# Altium footprint library Crystek.PcbLib: 3 footprints
Each footprint in its own frame and in the unit in brackets; x right, y up, seen from the top. Pads: shape width x height; smd on the part's side, far side on the other; paste and mask are expansions set on the pad; w line width, h text height; cw(c..) or ccw(c..) is an arc to the next point about the centre after c.
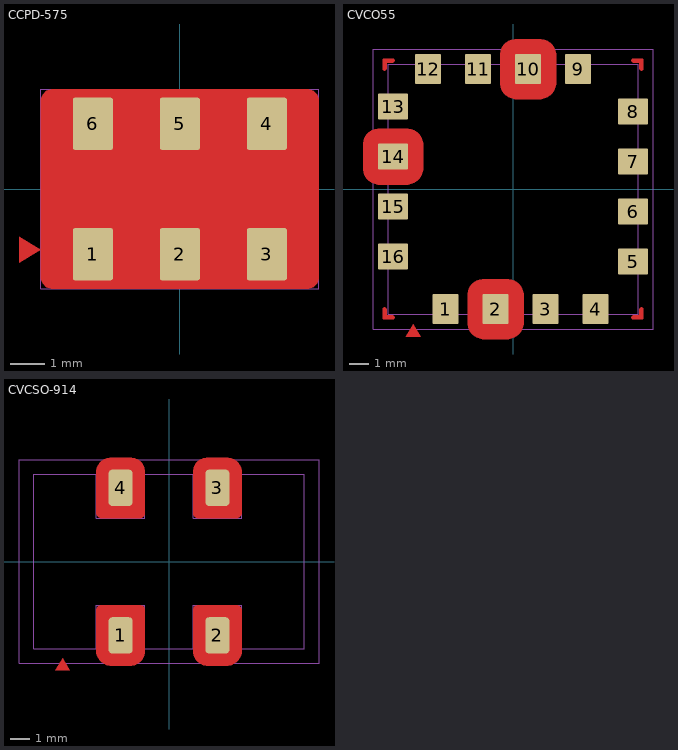
[diagram p0: the footprints below, top view; thin cyan lines are the x and y axes]

## CCPD-575 [mil] "Ultra-Low Phase Noise LVPECL Clock Oscillator"
height 98.43
pads (6):
  rrect10% 46x60 smd paste-2 mask+2: 1(-100,-75) 2(0,-75) 3(100,-75) 4(100,75) 5(0,75) 6(-100,75)
Top Layer:
  pour cut-out: -145,115 -147.98,115 -153.5,112.72 -157.72,108.5 -160,102.98 -160,100 -160,-100 -160,-102.98 -157.72,-108.5 -153.5,-112.72 -147.98,-115 -145,-115 145,-115 147.98,-115 153.5,-112.72 157.72,-108.5 160,-102.98 160,-100 160,100 160,102.98 157.72,108.5 153.5,112.72 147.98,115 145,115
  region: -160,-70 -185,-55 -185,-85
Top Designator:
  text ".Designator" at -127.64,-12.5 h35
Top Courtyard:
  lines w1: -160,-115 160,-115 160,115 -160,115 -160,-115
Top Component Outline:
  lines w1: -147.64,-100 -147.64,100 147.64,100 147.64,-100 -147.64,-100
3D body: height 99, standoff 10, extent -140,-90 140,90
3D body: height 20, standoff 0, extent 78,49 122,101
3D body: height 19.68, standoff 0, extent -147.64,-100 147.64,100
3D body: height 20, standoff 0, extent -22,49 22,101
3D body: height 20, standoff 0, extent -122,49 -78,101
3D body: height 20, standoff 0, extent -122,-101 -78,-49
3D body: height 20, standoff 0, extent -22,-101 22,-49
3D body: height 20, standoff 0, extent 78,-101 122,-49

## CVCO55 [mil]
height 98.43
pads (16):
  rrect10% 52x60 smd paste-2 mask+2: 1(-135,-240) 2(-35,-240) 3(65,-240) 4(165,-240) 9(130,240) 10(30,240) 11(-70,240) 12(-170,240)
  rrect10% 60x52 smd paste-2 mask+2: 5(240,-145) 6(240,-45) 7(240,55) 8(240,155) 13(-240,165) 14(-240,65) 15(-240,-35) 16(-240,-135)
Top Layer:
  region: 240.95,-252.94 240.15,-252.94 238.68,-253.55 237.55,-254.68 236.95,-256.15 236.95,-256.94 236.95,-257.74 237.55,-259.21 238.68,-260.33 240.15,-260.94 240.95,-260.94 256.95,-260.94 257.74,-260.94 259.21,-260.33 260.34,-259.21 260.95,-257.74 260.95,-256.94 260.95,-240.94 260.95,-240.15 260.34,-238.68 259.21,-237.55 257.74,-236.94 256.95,-236.94 256.15,-236.94 254.68,-237.55 253.55,-238.68 252.95,-240.15 252.95,-240.94 252.95,-250.94 252.91,-251.33 252.61,-252.06 252.06,-252.61 251.34,-252.91 250.95,-252.94
  region: -252.94,-240.95 -252.94,-240.15 -253.55,-238.68 -254.68,-237.55 -256.15,-236.95 -256.94,-236.95 -257.74,-236.95 -259.21,-237.55 -260.33,-238.68 -260.94,-240.15 -260.94,-240.95 -260.94,-256.95 -260.94,-257.74 -260.33,-259.21 -259.21,-260.34 -257.74,-260.95 -256.94,-260.95 -240.94,-260.95 -240.15,-260.95 -238.68,-260.34 -237.55,-259.21 -236.94,-257.74 -236.94,-256.95 -236.94,-256.15 -237.55,-254.68 -238.68,-253.55 -240.15,-252.95 -240.94,-252.95 -250.94,-252.95 -251.33,-252.91 -252.06,-252.61 -252.61,-252.06 -252.91,-251.34 -252.94,-250.95
  region: -240.95,252.94 -240.15,252.94 -238.68,253.55 -237.55,254.68 -236.95,256.15 -236.95,256.94 -236.95,257.74 -237.55,259.21 -238.68,260.33 -240.15,260.94 -240.95,260.94 -256.95,260.94 -257.74,260.94 -259.21,260.33 -260.34,259.21 -260.95,257.74 -260.95,256.94 -260.95,240.94 -260.95,240.15 -260.34,238.68 -259.21,237.55 -257.74,236.94 -256.95,236.94 -256.15,236.94 -254.68,237.55 -253.55,238.68 -252.95,240.15 -252.95,240.94 -252.95,250.94 -252.91,251.33 -252.61,252.06 -252.06,252.61 -251.34,252.91 -250.95,252.94
  region: 252.94,240.95 252.94,240.15 253.55,238.68 254.68,237.55 256.15,236.95 256.94,236.95 257.74,236.95 259.21,237.55 260.33,238.68 260.94,240.15 260.94,240.95 260.94,256.95 260.94,257.74 260.33,259.21 259.21,260.34 257.74,260.95 256.94,260.95 240.94,260.95 240.15,260.95 238.68,260.34 237.55,259.21 236.94,257.74 236.94,256.95 236.94,256.15 237.55,254.68 238.68,253.55 240.15,252.95 240.94,252.95 250.94,252.95 251.33,252.91 252.06,252.61 252.61,252.06 252.91,251.34 252.94,250.95
  pour cut-out: 53.4,180 56.61,180 62.91,181.25 68.84,183.71 74.18,187.28 78.72,191.82 82.29,197.16 84.75,203.09 86,209.39 86,212.6 86,267.4 86,270.61 84.75,276.91 82.29,282.84 78.72,288.18 74.18,292.72 68.84,296.29 62.91,298.75 56.61,300 53.4,300 6.6,300 3.39,300 -2.91,298.75 -8.84,296.29 -14.18,292.72 -18.72,288.18 -22.29,282.84 -24.75,276.91 -26,270.61 -26,267.4 -26,212.6 -26,209.39 -24.75,203.09 -22.29,197.16 -18.72,191.82 -14.18,187.28 -8.84,183.71 -2.91,181.25 3.39,180 6.6,180
  pour cut-out: -300,41.6 -300,38.39 -298.75,32.09 -296.29,26.16 -292.72,20.82 -288.18,16.28 -282.84,12.71 -276.91,10.25 -270.61,9 -267.4,9 -212.6,9 -209.39,9 -203.09,10.25 -197.16,12.71 -191.82,16.28 -187.28,20.82 -183.71,26.16 -181.25,32.09 -180,38.39 -180,41.6 -180,88.4 -180,91.61 -181.25,97.91 -183.71,103.84 -187.28,109.18 -191.82,113.72 -197.16,117.29 -203.09,119.75 -209.39,121 -212.6,121 -267.4,121 -270.61,121 -276.91,119.75 -282.84,117.29 -288.18,113.72 -292.72,109.18 -296.29,103.84 -298.75,97.91 -300,91.61 -300,88.4
  pour cut-out: -58.4,-180 -61.61,-180 -67.91,-181.25 -73.84,-183.71 -79.18,-187.28 -83.72,-191.82 -87.29,-197.16 -89.75,-203.09 -91,-209.39 -91,-212.6 -91,-267.4 -91,-270.61 -89.75,-276.91 -87.29,-282.84 -83.72,-288.18 -79.18,-292.72 -73.84,-296.29 -67.91,-298.75 -61.61,-300 -58.4,-300 -11.6,-300 -8.39,-300 -2.09,-298.75 3.84,-296.29 9.18,-292.72 13.72,-288.18 17.29,-282.84 19.75,-276.91 21,-270.61 21,-267.4 21,-212.6 21,-209.39 19.75,-203.09 17.29,-197.16 13.72,-191.82 9.18,-187.28 3.84,-183.71 -2.09,-181.25 -8.39,-180 -11.6,-180
  region: -200,-270 -215,-295 -185,-295
Top Courtyard:
  lines w1: -280,-280 280,-280 280,280 -280,280 -280,-280
Top Component Outline:
  lines w1: -250,-250 250,-250 250,250 -250,250 -250,-250
3D body "User Library-CVCO55BE_Crystek.step": height 150, standoff 0, extent -250,-250 250,250

## CVCSO-914 [mil] "VCSO (SAW) Sine Wave Oscillator 4-SMD, No Lead"
height 208.66
pads (4):
  rrect30% 50x75 smd mask+2: 1(-100,-152.5) 2(100,-152.5) 3(100,152.5) 4(-100,152.5)
Top Layer:
  pour cut-out: 120,-215 122.95,-215 128.75,-213.85 134.21,-211.59 139.12,-208.3 143.3,-204.12 146.59,-199.21 148.85,-193.75 150,-187.95 150,-185 150,-100 150,-98.01 148.48,-94.34 145.66,-91.52 141.99,-90 140,-90 60,-90 58.01,-90 54.34,-91.52 51.52,-94.34 50,-98.01 50,-100 50,-185 50,-187.95 51.15,-193.75 53.41,-199.21 56.7,-204.12 60.88,-208.3 65.79,-211.59 71.25,-213.85 77.05,-215 80,-215
  pour cut-out: -80,-215 -77.05,-215 -71.25,-213.85 -65.79,-211.59 -60.88,-208.3 -56.7,-204.12 -53.41,-199.21 -51.15,-193.75 -50,-187.95 -50,-185 -50,-100 -50,-98.01 -51.52,-94.34 -54.34,-91.52 -58.01,-90 -60,-90 -140,-90 -141.99,-90 -145.66,-91.52 -148.48,-94.34 -150,-98.01 -150,-100 -150,-185 -150,-187.95 -148.85,-193.75 -146.59,-199.21 -143.3,-204.12 -139.12,-208.3 -134.21,-211.59 -128.75,-213.85 -122.95,-215 -120,-215
  pour cut-out: 80,215 77.05,215 71.25,213.85 65.79,211.59 60.88,208.3 56.7,204.12 53.41,199.21 51.15,193.75 50,187.95 50,185 50,100 50,98.01 51.52,94.34 54.34,91.52 58.01,90 60,90 140,90 141.99,90 145.66,91.52 148.48,94.34 150,98.01 150,100 150,185 150,187.95 148.85,193.75 146.59,199.21 143.3,204.12 139.12,208.3 134.21,211.59 128.75,213.85 122.95,215 120,215
  pour cut-out: -120,215 -122.95,215 -128.75,213.85 -134.21,211.59 -139.12,208.3 -143.3,204.12 -146.59,199.21 -148.85,193.75 -150,187.95 -150,185 -150,100 -150,98.01 -148.48,94.34 -145.66,91.52 -141.99,90 -140,90 -60,90 -58.01,90 -54.34,91.52 -51.52,94.34 -50,98.01 -50,100 -50,185 -50,187.95 -51.15,193.75 -53.41,199.21 -56.7,204.12 -60.88,208.3 -65.79,211.59 -71.25,213.85 -77.05,215 -80,215
  region: -220,-200 -235,-225 -205,-225
Top Courtyard:
  lines w1: -310,-210 -310,210 310,210 310,-210 -310,-210
Top Component Outline:
  lines w1: -280,-180 -280,180 -150,180 -150,90 -50,90 -50,180 50,180 50,90 150,90 150,180 280,180 280,-180 150,-180 150,-90 50,-90 50,-180 -50,-180 -50,-90 -150,-90 -150,-180 -280,-180 ; -125,115 -125,180 -75,180 -75,115 -125,115
3D body "User Library-CVHD-950.STEP": height 208.66, standoff 0, extent -279.52,-180.31 279.53,180.32